# Altium footprint library Dap_an_Bai_tap_nang_cao.PcbLib: 1 footprints
Each footprint in its own frame and in the unit in brackets; x right, y up, seen from the top. Pads: shape width x height; smd on the part's side, far side on the other; paste and mask are expansions set on the pad; w line width, h text height; cw(c..) or ccw(c..) is an arc to the next point about the centre after c.
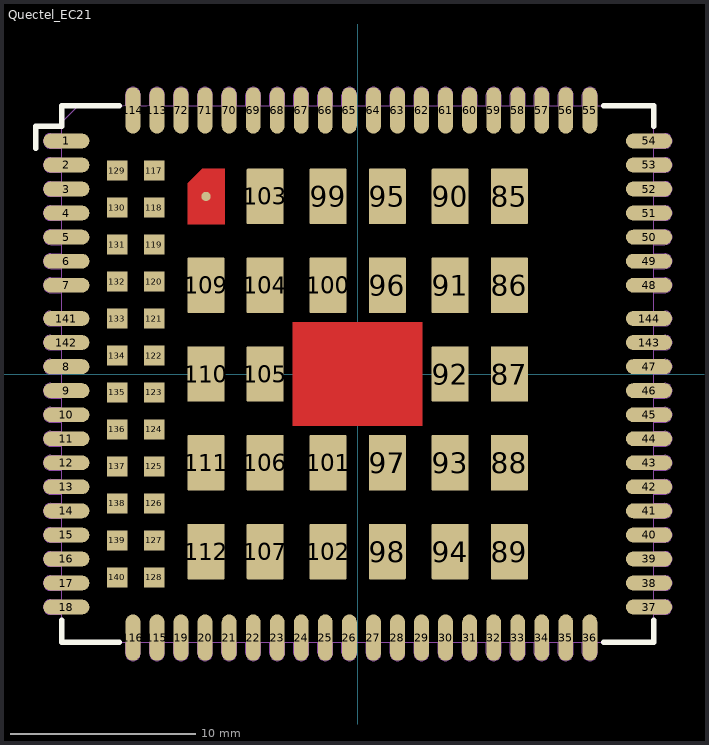
[diagram p0: the footprint, top view; thin cyan lines are the x and y axes]

## Quectel_EC21 [mm] "Quectel_EC21 32x29x2.6mm"
height 2.6
pads (132):
  oval 2.5x0.8 smd mask+0.1: 1(-15.75,12.6) 2(-15.75,11.3) 3(-15.75,10) 4(-15.75,8.7) 5(-15.75,7.4) 6(-15.75,6.1) 7(-15.75,4.8) 8(-15.75,0.4) 9(-15.75,-0.9) 10(-15.75,-2.2) 11(-15.75,-3.5) 12(-15.75,-4.8) 13(-15.75,-6.1) 14(-15.75,-7.4) 15(-15.75,-8.7) 16(-15.75,-10) 17(-15.75,-11.3) 18(-15.75,-12.6) 37(15.75,-12.6) 38(15.75,-11.3) 39(15.75,-10) 40(15.75,-8.7) 41(15.75,-7.4) 42(15.75,-6.1) 43(15.75,-4.8) 44(15.75,-3.5) 45(15.75,-2.2) 46(15.75,-0.9) 47(15.75,0.4) 48(15.75,4.8) 49(15.75,6.1) 50(15.75,7.4) 51(15.75,8.7) 52(15.75,10) 53(15.75,11.3) 54(15.75,12.6) 141(-15.75,3) 142(-15.75,1.7) 143(15.75,1.7) 144(15.75,3)
  oval 0.8x2.5 smd mask+0.1: 19(-9.55,-14.25) 20(-8.25,-14.25) 21(-6.95,-14.25) 22(-5.65,-14.25) 23(-4.35,-14.25) 24(-3.05,-14.25) 25(-1.75,-14.25) 26(-0.45,-14.25) 27(0.85,-14.25) 28(2.15,-14.25) 29(3.45,-14.25) 30(4.75,-14.25) 31(6.05,-14.25) 32(7.35,-14.25) 33(8.65,-14.25) 34(9.95,-14.25) 35(11.25,-14.25) 36(12.55,-14.25) 55(12.55,14.25) 56(11.25,14.25) 57(9.95,14.25) 58(8.65,14.25) 59(7.35,14.25) 60(6.05,14.25) 61(4.75,14.25) 62(3.45,14.25) 63(2.15,14.25) 64(0.85,14.25) 65(-0.45,14.25) 66(-1.75,14.25) 67(-3.05,14.25) 68(-4.35,14.25) 69(-5.65,14.25) 70(-6.95,14.25) 71(-8.25,14.25) 72(-9.55,14.25) 113(-10.85,14.25) 114(-12.15,14.25) 115(-10.85,-14.25) 116(-12.15,-14.25)
  rrect5% 2x3 smd mask+0.1: 85(8.2,9.6) 86(8.2,4.8) 87(8.2,0) 88(8.2,-4.8) 89(8.2,-9.6) 90(5,9.6) 91(5,4.8) 92(5,0) 93(5,-4.8) 94(5,-9.6) 95(1.6,9.6) 96(1.6,4.8) 97(1.6,-4.8) 98(1.6,-9.6) 99(-1.6,9.6) 100(-1.6,4.8) 101(-1.6,-4.8) 102(-1.6,-9.6) 103(-5,9.6) 104(-5,4.8) 105(-5,0) 106(-5,-4.8) 107(-5,-9.6) 109(-8.2,4.8) 110(-8.2,0) 111(-8.2,-4.8) 112(-8.2,-9.6)
  round 0.5 smd mask+0.1: 108(-8.2,9.6)
  rrect5% 1.1x1.1 smd mask+0.1: 117(-11,11) 118(-11,9) 119(-11,7) 120(-11,5) 121(-11,3) 122(-11,1) 123(-11,-1) 124(-11,-3) 125(-11,-5) 126(-11,-7) 127(-11,-9) 128(-11,-11) 129(-13,11) 130(-13,9) 131(-13,7) 132(-13,5) 133(-13,3) 134(-13,1) 135(-13,-1) 136(-13,-3) 137(-13,-5) 138(-13,-7) 139(-13,-9) 140(-13,-11)
Top Layer:
  pour cut-out: -3.5,2.8 -3.5,-2.8 3.5,-2.8 3.5,2.8
  region: -9.2,8.1 -9.2,10.3 -8.4,11.1 -7.2,11.1 -7.2,8.1
Top Overlay:
  lines w0.3: -17.4,12.2 -17.4,13.4 -16,13.4 -16,14.5 -12.9,14.5 ; -16,-13.3 -16,-14.5 -12.9,-14.5 ; 13.3,-14.5 16,-14.5 16,-13.3 ; 13.3,14.5 16,14.5 16,13.4
Top Paste:
  region: -9.2,8.1 -9.2,10.3 -8.4,11.1 -7.2,11.1 -7.2,8.1
Top Solder:
  region: -9.3,8 -9.3,10.3 -8.4,11.2 -7.1,11.2 -7.1,8
Mechanical 1:
  drawing of 357 lines, arcs and shapes, not listed
  text "1" at -14.5,12 h1.2
  text "114" at -13.1,12.9 h1.2
  text "55" at 11.6,12.9 h1.2
  text "18" at -14.1,-13.2 h1.2
  text "116" at -13.1,-14.1 h1.2
  text "36" at 11.4,-14.1 h1.2
  text "37" at 15.5,-13.2 h1.2
  text "54" at 15.5,11.1 h1.2